# Altium footprint library FT-M6678DSK_28nm_0920.PcbLib: 78 footprints (part 4 of 6)
Each footprint in its own frame and in the unit in brackets; x right, y up, seen from the top. Pads: shape width x height; smd on the part's side, far side on the other; paste and mask are expansions set on the pad; w line width, h text height; cw(c..) or ccw(c..) is an arc to the next point about the centre after c.
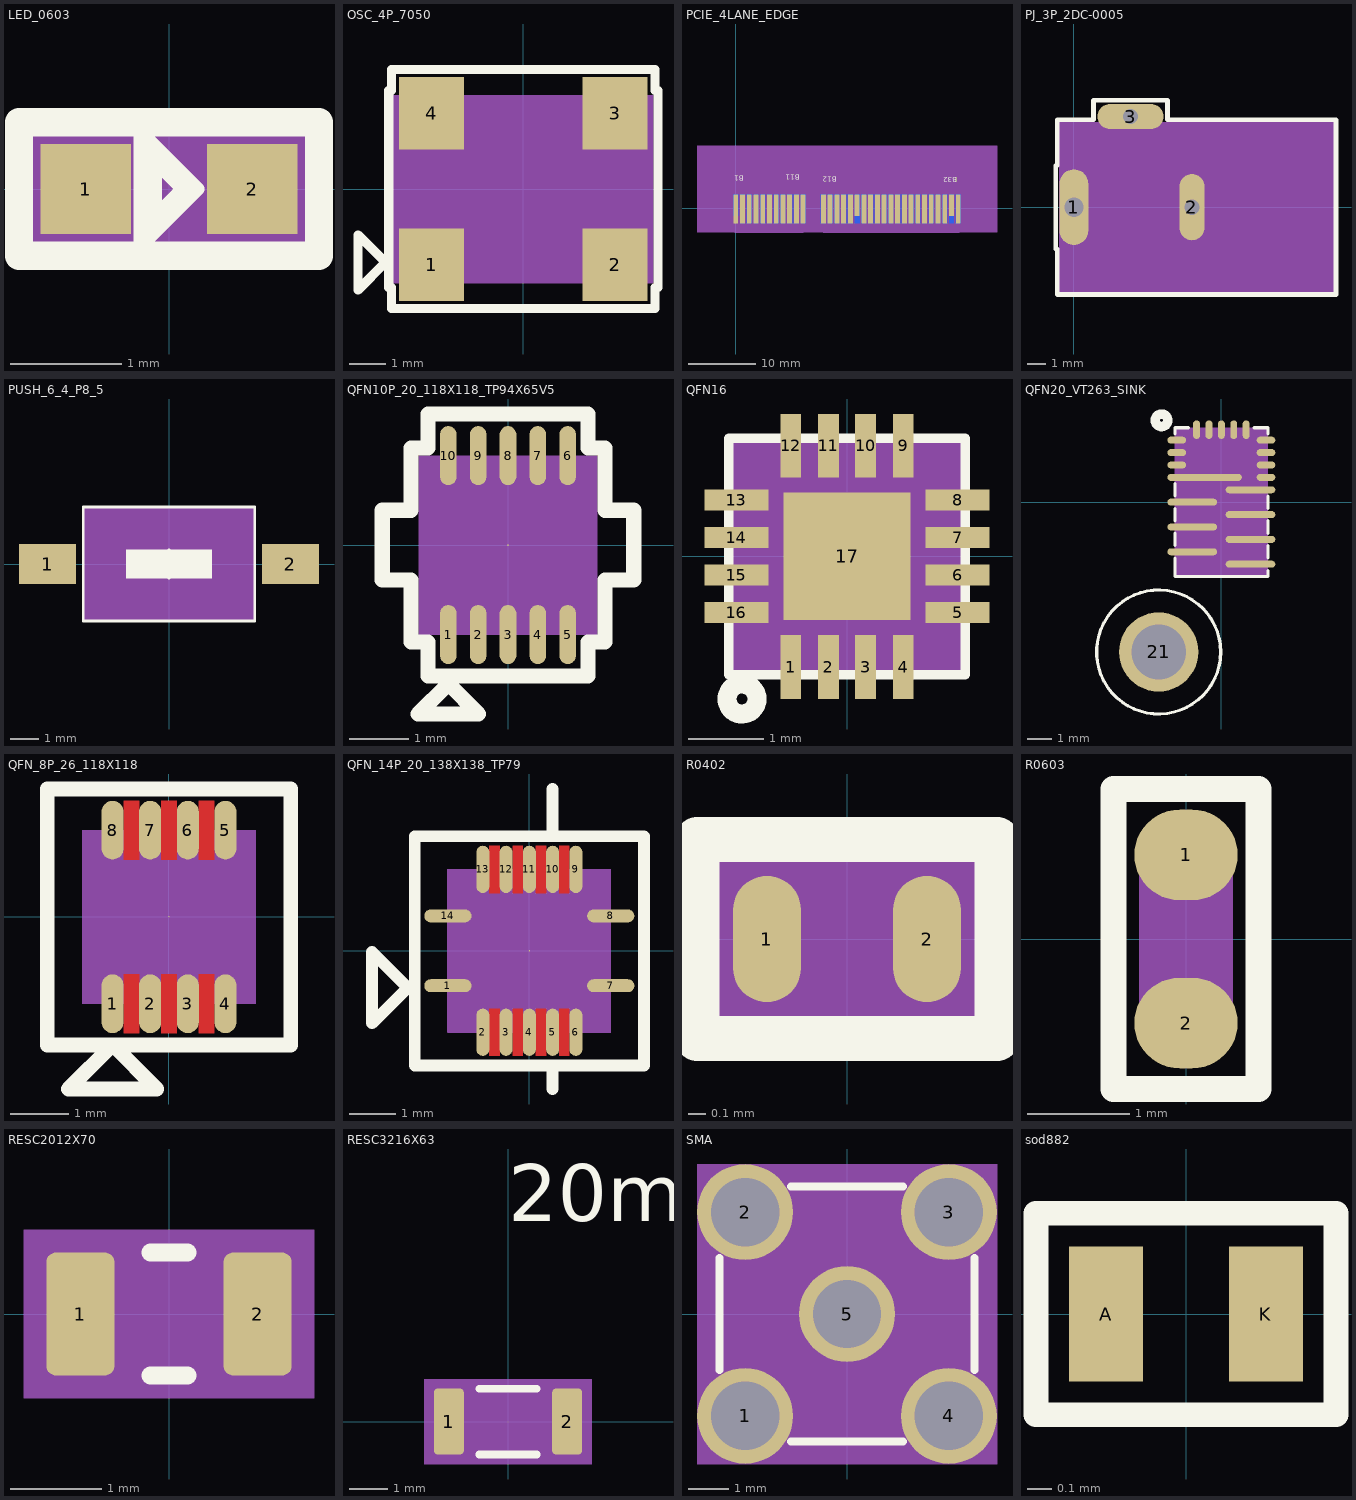
[diagram p3: the footprints below, top view; thin cyan lines are the x and y axes]

## LED_0603 [mil] "LED_0603"
pads (2):
  rect 32x32 smd: 1(-29.53,0) 2(29.53,0)
Top Overlay:
  lines w5: -10,-15 5,0 -10,15 ; -5,15 -5,-15 -10,-20 ; -10,-20 -10,20 10,0 -10,-20
  lines w10: -53.15,-23.62 53.15,-23.62 53.15,23.62 -53.15,23.62 -53.15,-23.62
Mechanical 11:
  text "2" at 34.25,0 h11.81
  text "1" at -24.81,0 h11.81
Mechanical 12:
  lines w1: -29.53,-14.96 29.53,-14.96 29.53,14.96 -29.53,14.96 -29.53,-14.96
Mechanical 15:
  region: -53.15,-23.62 53.15,-23.62 53.15,23.62 -53.15,23.62
3D body: height 150, standoff 0, extent -53.15,-23.62 53.15,23.62

## OSC_4P_7050 [mil] "OSC_4P_7050"
pads (4):
  rect 71x79 smd: 1(-100,-82.68) 2(100,-82.68) 3(100,82.68) 4(-100,82.68)
Top Overlay:
  lines w10: -180.18,-110 -150.18,-80 -180.18,-50 -180.18,-110 ; -146.73,-107.35 -146.73,107.36 -143.5,107.36 -143.5,130.19 143.5,130.19 143.5,107.36 146.73,107.36 146.73,-107.35 143.5,-107.35 143.5,-130.18 -143.5,-130.18 -143.5,-107.35 -146.73,-107.35
Mechanical 11:
  text "1" at -100,-77.96 h11.81
  text "3" at 100,87.41 h11.81
  text "2" at 100,-77.96 h11.81
  text "4" at -100,87.41 h11.81
Mechanical 12:
  lines w1: -141.73,-102.35 141.73,-102.35 141.73,102.36 -141.73,102.36 -141.73,-102.35
Mechanical 15:
  region: -141.73,-102.35 141.73,-102.35 141.73,102.37 -141.73,102.37
3D body: height 150, standoff 0, extent -141.73,-102.35 141.73,102.37

## PCIE_4LANE_EDGE [mil] "PCIE_4LANE_EDGE"
pads (64):
  rect 28x126 smd far side: A1(0,19.5)
  rect 28x169 smd far side: A2(39.37,-2) A3(78.74,-2) A4(118.11,-2) A5(157.48,-2) A6(196.85,-2) A7(236.22,-2) A8(275.59,-2) A9(314.96,-2) A10(354.33,-2) A11(393.7,-2) A12(511.81,-2) A13(551.18,-2) A14(590.55,-2) A15(629.92,-2) A16(669.29,-2) A17(708.66,-2) A18(748.03,-2) A19(787.4,-2) A20(826.77,-2) A21(866.14,-2) A22(905.51,-2) A23(944.88,-2) A24(984.25,-2) A25(1023.62,-2) A26(1062.99,-2) A27(1102.36,-2) A28(1141.73,-2) A29(1181.1,-2) A30(1220.47,-2) A31(1259.84,-2) A32(1299.21,-2)
  rect 28x169 smd: B1(0,-2) B2(39.37,-2) B3(78.74,-2) B4(118.11,-2) B5(157.48,-2) B6(196.85,-2) B7(236.22,-2) B8(275.59,-2) B9(314.96,-2) B10(354.33,-2) B11(393.7,-2) B12(511.81,-2) B13(551.18,-2) B14(590.55,-2) B15(629.92,-2) B16(669.29,-2) B18(748.03,-2) B19(787.4,-2) B20(826.77,-2) B21(866.14,-2) B22(905.51,-2) B23(944.88,-2) B24(984.25,-2) B25(1023.62,-2) B26(1062.99,-2) B27(1102.36,-2) B28(1141.73,-2) B29(1181.1,-2) B30(1220.47,-2) B32(1299.21,-2)
  rect 28x126 smd: B17(708.66,19.5) B31(1259.84,19.5)
Top Overlay:
  text "B32" at 1293.88,180.82 h30
  text "B12" at 588.88,185.82 h30
  text "B11" at 373.88,195.82 h30
  text "B1" at 46.88,190.82 h30
Bottom Overlay:
  text "A1" at 42.76,140.82 h31.1
  text "A11" at 400.2,145.82 h31.1
  text "A12" at 590.2,145.82 h31.1
  text "A32" at 1295.2,145.82 h31.1
Mechanical 11:
  text "A13" at 575.18,-2 h20
  text "A14" at 614.55,-2 h20
  text "A3" at 94.74,-2 h20
  text "A2" at 55.37,-2 h20
  text "B2" at 55.37,-2 h20
  text "B1" at 16,-2 h20
  text "A21" at 890.14,-2 h20
  text "A11" at 417.7,-2 h20
  text "B31" at 1283.84,19.5 h20
  text "A1" at 16,19.5 h20
  text "B28" at 1165.73,-2 h20
  text "B27" at 1126.36,-2 h20
  text "B24" at 1008.25,-2 h20
  text "B23" at 968.88,-2 h20
  text "B20" at 850.77,-2 h20
  text "B19" at 811.4,-2 h20
  text "B15" at 653.92,-2 h20
  text "B14" at 614.55,-2 h20
  text "B11" at 417.7,-2 h20
  text "A31" at 1283.84,-2 h20
  text "B32" at 1323.21,-2 h20
  text "B29" at 1205.1,-2 h20
  text "A28" at 1165.73,-2 h20
  text "A24" at 1008.25,-2 h20
  text "B25" at 1047.62,-2 h20
  text "B26" at 1086.99,-2 h20
  text "A27" at 1126.36,-2 h20
  text "B18" at 772.03,-2 h20
  text "A18" at 772.03,-2 h20
  text "B21" at 890.14,-2 h20
  text "A20" at 850.77,-2 h20
  text "B22" at 929.51,-2 h20
  text "A23" at 968.88,-2 h20
  text "B16" at 693.29,-2 h20
  text "A15" at 653.92,-2 h20
  text "B13" at 575.18,-2 h20
  text "A12" at 535.81,-2 h20
  text "B7" at 252.22,-2 h20
  text "B4" at 134.11,-2 h20
  text "A4" at 134.11,-2 h20
  text "A7" at 252.22,-2 h20
  text "A6" at 212.85,-2 h20
  text "A17" at 732.66,-2 h20
  text "A16" at 693.29,-2 h20
  text "A25" at 1047.62,-2 h20
  text "A26" at 1086.99,-2 h20
  text "A29" at 1205.1,-2 h20
  text "A30" at 1244.47,-2 h20
  text "A22" at 929.51,-2 h20
  text "B6" at 212.85,-2 h20
  text "B5" at 173.48,-2 h20
  text "A32" at 1323.21,-2 h20
  text "A19" at 811.4,-2 h20
  text "B30" at 1244.47,-2 h20
  text "B12" at 535.81,-2 h20
  text "B3" at 94.74,-2 h20
  text "B17" at 732.66,19.5 h20
  text "A8" at 291.59,-2 h20
  text "A5" at 173.48,-2 h20
  text "B9" at 330.96,-2 h20
  text "A10" at 378.33,-2 h20
  text "A9" at 330.96,-2 h20
  text "B8" at 291.59,-2 h20
  text "B10" at 378.33,-2 h20
Mechanical 13:
  region: -225.59,-137.5 1524.8,-137.5 1524.8,364.47 -225.59,364.47
Mechanical 15:
  region: -225.59,-137.5 1524.8,-137.5 1524.8,364.47 -225.59,364.47
Mechanical 16:
  lines w1: -225.59,364.47 -25.59,364.47 -25.59,-117.82 -5.91,-137.5 395.67,-137.5 415.35,-117.82 415.35,155.81 cw(c452.75,155.81) 490.16,155.81 490.16,-117.82 509.84,-137.5 1305.12,-137.5 1324.8,-117.82 1324.8,364.47 1524.8,364.47
3D body: height 150, standoff 0, extent -225.59,-137.5 1524.8,364.47
3D body: height 150, standoff 0, extent -225.59,-137.5 1524.8,364.47

## PJ_3P_2DC-0005 [mil] "PJ_3P_2DC-0005"
pads (3):
  oval 60x158 hole 40: 1(0,0)
  oval 52x138 hole 32: 2(246.06,0)
  oval 138x52 hole 32: 3(118.11,188.98)
Top Overlay:
  lines w10: -38,-87 -38,87 -34.52,87 -34.52,182.17 41.11,182.17 41.11,222.98 195.11,222.98 195.11,182.17 546.34,182.17 546.34,-182.17 -34.52,-182.17 -34.52,-87 -38,-87
Mechanical 11:
  text "1" at 0,-9.45 h11.81
  text "2" at 246.06,-9.45 h11.81
  text "3" at 118.11,179.53 h11.81
Mechanical 12:
  lines w1: -29.52,-177.17 541.34,-177.17 541.34,177.17 -29.52,177.17 -29.52,-177.17
Mechanical 15:
  region: -29.53,-177.17 541.34,-177.17 541.34,177.17 -29.53,177.17
3D body: height 150, standoff 0, extent -29.53,-177.17 541.34,177.17

## PUSH_6_4_P8_5 [mm] "PUSH_6_4_P8_5"
pads (2):
  rect 2x1.4 smd: 1(-4.25,0) 2(4.25,0)
Top Overlay:
  pour cut-out: -1.5,0.5 -1.5,-0.5 1.5,-0.5 1.5,0.5
  lines w0.1: -0.5,0 0.5,0 ; 0,-0.5 0,0.5 ; -3,-2 -3,2 3,2 3,-2 -3,-2
Mechanical 11:
  text "1" at -4.37,0 h0.3
  text "2" at 4.13,0 h0.3
Mechanical 15:
  region: -3,-2 3,-2 3,2 -3,2
3D body: height 3.81, standoff 0, extent -3,-2 3,2

## QFN10P_20_118X118_TP94X65V5 [mil] "QFN10P_20_118X118_TP94X65V5"
pads (11):
  oval 11x39 smd: 1(-39.37,-59.06) 2(-19.69,-59.06) 3(0,-59.06) 4(19.69,-59.06) 5(39.37,-59.06) 6(39.37,59.06) 7(19.69,59.06) 8(0,59.06) 9(-19.69,59.06) 10(-39.37,59.06)
  oct 1x1 smd: 11(0,0)
Top Overlay:
  lines w10: -83,-23 -83,23 -64.06,23 -64.06,64.06 -52.87,64.06 -52.87,86.56 52.87,86.56 52.87,64.06 64.06,64.06 64.06,23 83,23 83,-23 64.06,-23 64.06,-64.06 52.87,-64.06 52.87,-86.56 -52.87,-86.56 -52.87,-64.06 -64.06,-64.06 -64.06,-23 -83,-23 ; -59.37,-111.56 -39.37,-91.56 -19.37,-111.56 -59.37,-111.56
Mechanical 11:
  text "10" at -16.97,59.06 h28
  text "6" at 50.57,59.06 h28
  text "9" at -8.49,59.06 h28
  text "1" at -28.17,-59.06 h28
  text "2" at -8.49,-59.06 h28
  text "3" at 11.2,-59.06 h28
  text "5" at 50.57,-59.06 h28
  text "4" at 30.89,-59.06 h28
  text "8" at 11.2,59.06 h28
  text "11" at 22.4,0 h28
  text "7" at 30.89,59.06 h28
Mechanical 15:
  region: -59.06,-59.06 59.06,-59.06 59.06,59.06 -59.06,59.06
3D body: height 150, standoff 0, extent -59.06,-59.06 59.06,59.06

## QFN16 [mm] "QFN16"
pads (17):
  rect 0.28x0.85 smd: 1(-0.75,-1.475) 2(-0.25,-1.475) 3(0.25,-1.475) 4(0.75,-1.475) 9(0.75,1.475) 10(0.25,1.475) 11(-0.25,1.475) 12(-0.75,1.475)
  rect 0.85x0.28 smd: 5(1.475,-0.75) 6(1.475,-0.25) 7(1.475,0.25) 8(1.475,0.75) 13(-1.475,0.75) 14(-1.475,0.25) 15(-1.475,-0.25) 16(-1.475,-0.75)
  rect 1.7x1.7 smd: 17(0,0)
Top Overlay:
  circle w0.254: c-1.4,-1.9 r0.2
  lines w0.127: -1.575,-1.575 -1.575,1.575 1.575,1.575 1.575,-1.575 -1.575,-1.575
Mechanical 11:
  text "4" at 0.75,-1.595 h0.3
  text "5" at 1.475,-0.87 h0.3
  text "2" at -0.25,-1.595 h0.3
  text "1" at -0.75,-1.595 h0.3
  text "8" at 1.475,0.63 h0.3
  text "7" at 1.475,0.13 h0.3
  text "9" at 0.75,1.355 h0.3
  text "12" at -0.75,1.235 h0.3
  text "11" at -0.25,1.235 h0.3
  text "10" at 0.25,1.235 h0.3
  text "16" at -1.475,-0.99 h0.3
  text "6" at 1.475,-0.37 h0.3
  text "3" at 0.25,-1.595 h0.3
  text "17" at 0,-0.24 h0.3
  text "14" at -1.475,0.01 h0.3
  text "15" at -1.475,-0.49 h0.3
  text "13" at -1.475,0.51 h0.3
Mechanical 15:
  region: -1.575,-1.575 -1.575,1.575 1.575,1.575 1.575,-1.575
3D body: height 3.81, standoff 0, extent -1.575,-1.575 1.575,1.575

## QFN20_VT263_SINK [mm] "QFN20_VT263_SINK"
pads (21):
  oval 0.75x0.28 smd: 1(-1.8,2.5) 2(-1.8,2) 3(-1.8,1.5) 12(1.8,1) 13(1.8,1.5) 14(1.8,2) 15(1.8,2.5)
  oval 3x0.28 smd: 4(-0.675,1)
  oval 2x0.28 smd: 5(-1.175,0) 6(-1.175,-1) 7(-1.175,-2) 8(1.175,-2.5) 9(1.175,-1.5) 10(1.175,-0.5) 11(1.175,0.5)
  oval 0.28x0.75 smd: 16(1,2.925) 17(0.5,2.925) 18(0,2.925) 19(-0.5,2.925) 20(-1,2.925)
  round 3.2 hole 2.2: 21(-2.527,-6.041)
Top Overlay:
  circle w0.381: c-2.413,3.302 r0.254
  circle w0.127: c-2.527,-6.041 r2.5
  lines w0.127: -1.875,-2.25 -1.875,-3 1.875,-3 1.875,-2.75 ; -1.875,-1.75 -1.875,-1.25 ; -1.875,-0.75 -1.875,-0.25 ; -1.875,0.25 -1.875,0.75 ; -1.875,2.75 -1.875,3 -1.325,3 ; 1.325,3 1.875,3 1.875,2.75 ; 1.875,-2.25 1.875,-1.75 ; 1.875,-1.25 1.875,-0.75 ; 1.875,-0.25 1.875,0.25
Bottom Overlay:
  circle w0.127: c-2.527,-6.041 r2.5
Mechanical 11:
  text "4" at -0.595,1 h0.2
  text "19" at -0.18,2.925 h0.2
  text "18" at 0.32,2.925 h0.2
  text "17" at 0.82,2.925 h0.2
  text "3" at -1.72,1.5 h0.2
  text "14" at 1.96,2 h0.2
  text "13" at 1.96,1.5 h0.2
  text "20" at -0.68,2.925 h0.2
  text "1" at -1.72,2.5 h0.2
  text "12" at 1.96,1 h0.2
  text "11" at 1.335,0.5 h0.2
  text "10" at 1.335,-0.5 h0.2
  text "8" at 1.255,-2.5 h0.2
  text "9" at 1.255,-1.5 h0.2
  text "7" at -1.095,-2 h0.2
  text "6" at -1.095,-1 h0.2
  text "5" at -1.095,0 h0.2
  text "16" at 1.32,2.925 h0.2
  text "21" at -2.207,-6.041 h0.2
  text "15" at 1.96,2.5 h0.2
  text "2" at -1.72,2 h0.2
Mechanical 15:
  region: -1.875,-3 1.875,-3 1.875,3 -1.875,3
3D body: height 3.81, standoff 0, extent -1.875,-3 1.875,3

## QFN_8P_26_118X118 [mil] "QFN_8P_26_118X118"
pads (9):
  oval 15x40 smd: 1(-38.39,-59.06) 2(-12.8,-59.06) 3(12.8,-59.06) 4(38.39,-59.06) 5(38.39,59.06) 6(12.8,59.06) 7(-12.8,59.06) 8(-38.39,59.06)
  oct 1x1 smd: 9(0,0)
Top Layer:
  region: -30.89,-79.06 -25.6,-79.06 -25.6,-39.06 -30.89,-39.06
  region: -25.59,-79.06 -20.29,-79.06 -20.29,-39.06 -25.59,-39.06
  region: -5.29,-79.06 0,-79.06 0,-39.06 -5.29,-39.06
  region: 0.02,-79.06 5.31,-79.06 5.31,-39.06 0.02,-39.06
  region: 20.3,-79.06 25.6,-79.06 25.6,-39.06 20.3,-39.06
  region: 25.6,-79.06 30.89,-79.06 30.89,-39.06 25.6,-39.06
  region: -30.89,39.06 -25.6,39.06 -25.6,79.06 -30.89,79.06
  region: -25.59,39.06 -20.29,39.06 -20.29,79.06 -25.59,79.06
  region: -5.29,39.06 -0.01,39.06 -0.01,79.06 -5.29,79.06
  region: 0.02,39.06 5.3,39.06 5.3,79.06 0.02,79.06
  region: 20.3,39.06 25.6,39.06 25.6,79.06 20.3,79.06
  region: 25.6,39.06 30.89,39.06 30.89,79.06 25.6,79.06
Top Overlay:
  lines w10: -82.79,-87.06 72.8,-87.06 82.8,-87.06 82.8,77.06 82.8,87.06 -72.79,87.06 -82.79,87.06 -82.79,-87.06 ; -68.39,-117.06 -8.39,-117.06 -38.39,-87.06 -68.39,-117.06
Mechanical 11:
  text "1" at -38.39,-63.78 h11.81
  text "4" at 38.39,-63.78 h11.81
  text "9" at 0,-9.45 h11.81
  text "5" at 38.39,54.34 h11.81
  text "3" at 12.8,-63.78 h11.81
  text "8" at -38.39,54.34 h11.81
  text "7" at -12.79,54.34 h11.81
  text "6" at 12.8,54.34 h11.81
  text "2" at -12.79,-63.78 h11.81
Mechanical 12:
  lines w1: -45.46,-54.49 -31.29,-54.49 -31.29,-38.74 -45.46,-38.74 -45.46,-54.49 ; -45.46,38.74 -31.29,38.74 -31.29,54.49 -45.46,54.49 -45.46,38.74 ; -19.88,-54.49 -5.7,-54.49 -5.7,-38.74 -19.88,-38.74 -19.88,-54.49 ; -19.88,38.74 -5.7,38.74 -5.7,54.49 -19.88,54.49 -19.88,38.74 ; 5.71,-54.49 19.89,-54.49 19.89,-38.74 5.71,-38.74 5.71,-54.49 ; 5.71,38.74 19.89,38.74 19.89,54.49 5.71,54.49 5.71,38.74 ; 31.3,-54.49 45.47,-54.49 45.47,-38.74 31.3,-38.74 31.3,-54.49 ; 31.3,38.74 45.47,38.74 45.47,54.49 31.3,54.49 31.3,38.74
Mechanical 15:
  region: -59.05,-59.05 59.05,-59.05 59.05,59.05 -59.05,59.05
3D body: height 150, standoff 0, extent -59.05,-59.05 59.05,59.05

## QFN_14P_20_138X138_TP79 [mil] "QFN_14P_20_138X138_TP79"
pads (15):
  oval 40x11 smd: 1(-68.9,-29.53) 7(68.9,-29.53) 8(68.9,29.53) 14(-68.9,29.53)
  oval 11x40 smd: 2(-39.37,-68.9) 3(-19.69,-68.9) 4(0,-68.9) 5(19.69,-68.9) 6(39.37,-68.9) 9(39.37,68.9) 10(19.69,68.9) 11(0,68.9) 12(-19.69,68.9) 13(-39.37,68.9)
  oct 1x1 smd: 15(0,0)
Top Layer:
  region: -33.87,-88.9 -29.53,-88.9 -29.53,-48.9 -33.87,-48.9
  region: -29.53,-88.9 -25.19,-88.9 -25.19,-48.9 -29.53,-48.9
  region: -14.19,-88.9 -9.85,-88.9 -9.85,-48.9 -14.19,-48.9
  region: -9.84,-88.9 -5.5,-88.9 -5.5,-48.9 -9.84,-48.9
  region: 5.5,-88.9 9.84,-88.9 9.84,-48.9 5.5,-48.9
  region: 9.85,-88.9 14.19,-88.9 14.19,-48.9 9.85,-48.9
  region: 25.19,-88.9 29.53,-88.9 29.53,-48.9 25.19,-48.9
  region: 29.53,-88.9 33.87,-88.9 33.87,-48.9 29.53,-48.9
  region: -33.87,48.9 -29.53,48.9 -29.53,88.9 -33.87,88.9
  region: -29.53,48.9 -25.19,48.9 -25.19,88.9 -29.53,88.9
  region: -14.19,48.9 -9.85,48.9 -9.85,88.9 -14.19,88.9
  region: -9.84,48.9 -5.5,48.9 -5.5,88.9 -9.84,88.9
  region: 5.5,48.9 9.84,48.9 9.84,88.9 5.5,88.9
  region: 9.85,48.9 14.19,48.9 14.19,88.9 9.85,88.9
  region: 25.19,48.9 29.53,48.9 29.53,88.9 25.19,88.9
  region: 29.53,48.9 33.87,48.9 33.87,88.9 29.53,88.9
Top Overlay:
  lines w10: 19.69,-116.9 19.69,-96.9 ; 19.69,96.9 19.69,136.9 ; -133.03,-61.1 -133.03,-1.1 -103.03,-31.1 -133.03,-61.1 ; -96.9,-96.9 -96.9,96.9 96.9,96.9 96.9,-96.9 -96.9,-96.9
Mechanical 11:
  text "14" at -68.9,38.98 h11.81
  text "7" at 68.9,-24.81 h11.81
  text "1" at -68.9,-24.81 h11.81
  text "13" at -39.37,78.35 h11.81
  text "8" at 68.9,34.25 h11.81
  text "9" at 39.37,73.62 h11.81
  text "11" at 0,78.35 h11.81
  text "12" at -19.69,78.35 h11.81
  text "10" at 19.69,78.35 h11.81
  text "15" at 0,9.45 h11.81
  text "2" at -39.37,-64.18 h11.81
  text "3" at -19.69,-64.18 h11.81
  text "5" at 19.69,-64.18 h11.81
  text "6" at 39.37,-64.18 h11.81
  text "4" at 0,-64.18 h11.81
Mechanical 12:
  lines w1: -68.9,68.9 -68.9,-68.9 68.9,-68.9 68.9,68.9
Mechanical 15:
  region: -68.9,-68.9 68.9,-68.9 68.9,68.9 -68.9,68.9
3D body: height 150, standoff 0, extent -68.9,-68.9 68.9,68.9

## R0402 [mil] "R0402"
pads (2):
  oval 15x28 smd: 1(-17.72,0) 2(17.72,0)
Top Overlay:
  lines w10: -33.22,-22 33.22,-22 33.22,22 -33.22,22 -33.22,-22
Mechanical 11:
  text "2" at 17.72,4.72 h11.81
  text "1" at -17.72,4.72 h11.81
Mechanical 12:
  lines w1: -29.53,-17.72 29.53,-17.72 29.53,17.72 -29.53,17.72 -29.53,-17.72
Mechanical 15:
  region: -29.53,-17.72 29.53,-17.72 29.53,17.72 -29.53,17.72
3D body: height 150, standoff 0, extent -29.53,-17.72 29.53,17.72

## R0603 [mil] "R0603"
pads (2):
  oval 40x35 smd: 1(0,32.5) 2(0,-32.5)
Top Overlay:
  lines w10: -28,-58 28,-58 28,58 -28,58 -28,-58
Mechanical 11:
  text "1" at 4.72,32.5 h11.81
  text "2" at 4.72,-32.5 h11.81
Mechanical 12:
  lines w1: -17.73,-33.46 17.72,-33.46 17.72,33.46 -17.73,33.46 -17.73,-33.46
Mechanical 15:
  region: -17.73,-33.46 17.71,-33.46 17.71,33.46 -17.73,33.46
3D body: height 150, standoff 0, extent -17.73,-33.46 17.71,33.46

## RESC2012X70 [mm] "RESC2012X70"
pads (2):
  rrect27% 0.75x1.35 smd: 1(-0.975,0) 2(0.975,0)
Top Overlay:
  lines w0.2: -0.2,-0.675 0.2,-0.675 ; -0.2,0.675 0.2,0.675
Mechanical 11:
  text "2" at 0.975,0.12 h0.3
  text "1" at -0.975,0.12 h0.3
Mechanical 15:
  region: -1.6,-0.925 1.6,-0.925 1.6,0.925 -1.6,0.925
Mechanical 16:
  pour cut-out: -1,-0.675 1,-0.675 1,0.675 -1,0.675
  lines w0.2: -1,-0.675 -1,0.675 1,0.675 1,-0.675 -1,-0.675
  text "RichardLC" at 0,0.88 h0.3
3D body: height 3.81, standoff 0, extent -1.6,-0.925 1.6,0.925

## RESC3216X63 [mm] "RESC3216X63"
pads (2):
  rrect25% 0.79x1.73 smd: 1(-1.555,0) 2(1.555,0)
Top Overlay:
  lines w0.2: -0.76,-0.865 0.76,-0.865 ; -0.76,0.865 0.76,0.865
  text "20mR 1%" at 0,5.265 h1.5
  text ".Designator" at 0,2.284 h0.76
Mechanical 11:
  text "2" at 1.555,0.16 h0.4
  text "1" at -1.555,0.16 h0.4
Mechanical 15:
  region: -2.2,-1.115 2.2,-1.115 2.2,1.115 -2.2,1.115
Mechanical 16:
  pour cut-out: -1.6,-0.865 1.6,-0.865 1.6,0.865 -1.6,0.865
  lines w0.2: -1.6,-0.865 1.6,-0.865 1.6,0.865 -1.6,0.865 -1.6,-0.865
  text "20mR 1%" at 0,0.92 h0.4
  text "RichardLC" at 0,1.24 h0.4
  text "pn" at 0,0.12 h0.4
3D body: height 3.81, standoff 0, extent -2.2,-1.115 2.2,1.115

## SMA [mil] "SMA"
pads (5):
  round 94 hole 67: 1(-100,-100) 2(-100,100) 3(100,100) 4(100,-100) 5(0,0)
Top Overlay:
  lines w7.87: -125,-55 -125,55 ; -55,-125 55,-125 ; -55,125 55,125 ; 125,-55 125,55
Mechanical 11:
  text "1" at 0,4.72 h11.81
  text "4" at 100,-95.28 h11.81
  text "3" at 100,104.72 h11.81
  text "5" at -100,-95.28 h11.81
  text "2" at -100,104.72 h11.81
Mechanical 15:
  region: -147.24,-147.24 147.24,-147.24 147.24,147.24 -147.24,147.24
3D body: height 150, standoff 0, extent -147.24,-147.24 147.24,147.24

## sod882 [mm]
pads (2):
  rect 0.3x0.55 smd: A(-0.325,0) K(0.325,0)
Top Overlay:
  lines w0.1: -0.61,-0.41 -0.61,0 -0.61,0.41 0.61,0.41 0.61,-0.41 -0.61,-0.41